# Altium schematic symbol library 4_EC800M_4G_GPS.schdoc.SCHLIB: 5 symbols
Pins are listed as number, name and electrical type; pins without a type are passive.

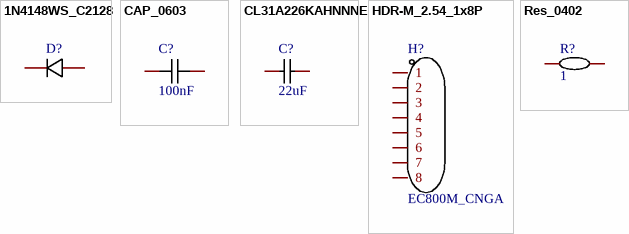
[diagram p0: symbols 1N4148WS_C2128 to Res_0402]

## 1N4148WS_C2128
designator D?, comment 1N4148WS  (value not drawn)
Symbol: 1N4148WS T4; Device: 1N4148WS_C2128; Add into BOM: yes; Power Dissipation: 200mW; Reverse Voltage (Vr): 100V; Average Rectified Current (Io): 150mA; Forward Voltage (Vf@If): 1.25V@150mA; Reverse Recovery Time (trr): 4ns; LCSC Part Name: Vr=100V Io=150mA trr=4ns T4; Supplier Part: C2128; Manufacturer Part: 1N4148WS; Supplier Footprint: SOD-323; JLCPCB Part Class: Basic Part; Datasheet: https://atta.szlcsc.com/upload/public/pdf/source/20140809/1457707208178.pdf; Supplier: LCSC; Convert to PCB: yes; Name: 1N4148WS
footprint SOD-323_L1.8-W1.3-LS2.5-RD
3D model SOD-323_L1.7-W1.3-H1.1-LS2.5
pins: 1 K, 2 A

## CAP_0603
designator C?, comment 100nF
Symbol: CapAcitance; Device: CAP_0603; Convert to PCB: yes; Add into BOM: yes; Supplier Footprint: 0603; Value: 100nF; Name: 100nF
footprint 0603C
3D model C0603_L1.6-W0.8-H0.8
pins: 1, 2

## CL31A226KAHNNNE
designator C?, comment 22uF
Symbol: CL31A226KAHNNNE; Add into BOM: yes; Temperature Coefficient: X5R; Voltage Rated: 25V; Device: CL31A226KAHNNNE; Supplier Part: C12891; Manufacturer Part: CL31A226KAHNNNE; Supplier Footprint: 1206; JLCPCB Part Class: Extended Part; Datasheet: https://atta.szlcsc.com/upload/public/pdf/source/20160103/1457707667836.pdf; Supplier: LCSC; Convert to PCB: yes; Value: 22uF; Name: 22uF
footprint C1206
3D model C1206_L3.2-W1.6-H1.3
pins: 1, 2

## HDR-M_2.54_1x8P
designator H?, comment EC800M_CNGA
Symbol: Header-Male-2.54_1x8; Device: HDR-M_2.54_1x8P; Convert to PCB: yes; Add into BOM: yes; Supplier Part: C124381; Name: EC800M_CNGA
footprint HDR-TH_8P-P2.54-V-M
3D model HDR-TH_8P-P2.54-V-M
pins: 1, 2, 3, 4, 5, 6, 7, 8

## Res_0402
designator R?, comment 1
Device: Res_0402; Convert to PCB: yes; Add into BOM: yes; Supplier Footprint: 0402; Value: 1; Name: 1
footprint 0402C
3D model R0402_L1.0-W0.5-H0.5
pins: 1, 2